# Altium schematic symbol library Schlib1.SchLib: 2 symbols
Pins are listed as number, name and electrical type; pins without a type are passive.

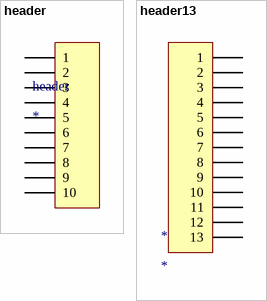
[diagram p0: symbols header to header13]

## header
designator header
footprint header10 (header)
pins: 1, 2, 3, 4, 5, 6, 7, 8, 9, 10

## header13
designator *
footprint header13
pins: 1, 2, 3, 4, 5, 6, 7, 8, 9, 10, 11, 12, 13